# EAGLE library part SN74AVC2T45 (library borkedlabs-transceivers)
2-Bit, 2-Supply Bus Transceiver with Configurable Level-Shifting and Translation and 3-State Outputs
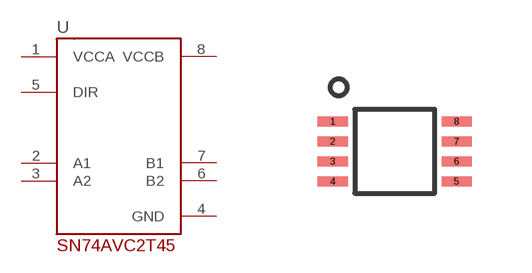
[diagram p1: symbol with the pads of 8-VFSOP; footprint 8-VFSOP]

Designator prefix U

## SN74AVC2T45DCUR  [8-VFSOP]
1  VCCA
2  A1
3  A2
4  GND
5  DIR
6  B2
7  B1
8  VCCB

## Footprint 8-VFSOP (pad centres in mm)
smd 0.75 x 0.25: 1 -1.55,0.75; 2 -1.55,0.25; 3 -1.55,-0.25; 4 -1.55,-0.75; 5 1.55,-0.75; 6 1.55,-0.25; 7 1.55,0.25; 8 1.55,0.75